# Altium integrated library MBR0540-TP.IntLib: 1 symbol
Pins are listed as number, name and electrical type; pins without a type are passive.

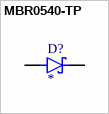
[diagram p0: symbol MBR0540-TP]

## MBR0540-TP
designator D?
Diode Schottky 40 V 500mA Surface Mount SOD-123; MF: Micro Commercial; MP: MBR0540-TP; SnapEDA_Link: https://www.snapeda.com/parts/MBR0540-TP/Micro+Commercial+Components/view-part/?ref=snap; Package: SOD-123 Multicomp; Value: *; Check_prices: https://www.snapeda.com/parts/MBR0540-TP/Micro+Commercial+Components/view-part/?ref=eda
footprint DIO_MBR0540-TP
pins: A, C K